# EAGLE library part MCP2515 (library mcp2515)
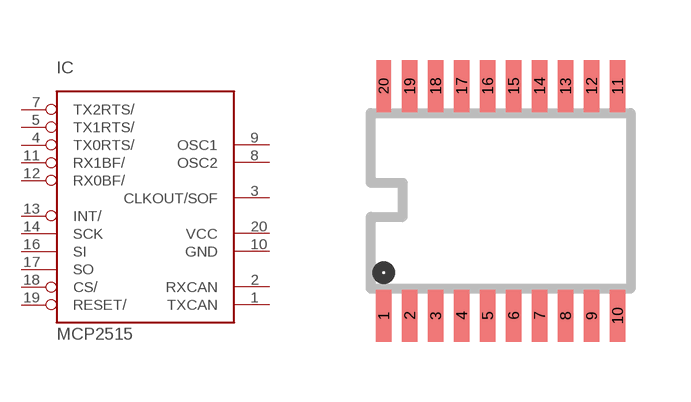
[diagram p0: symbol with the pads of TSSOP; footprint TSSOP]

Designator prefix IC

## MCP2515  [TSSOP]
1  TXCAN
2  RXCAN
3  CLKOUT/SOF
4  TX0RTS/
5  TX1RTS/
7  TX2RTS/
8  OSC2
9  OSC1
10  GND  sup
11  RX1BF/
12  RX0BF/
13  INT/  out
14  SCK  in
16  SI  in
17  SO  out
18  CS/  in
19  RESET/  in
20  VCC  sup

## Footprint TSSOP (pad centres in mm)
smd 0.396 x 1.3: 1 -2.925,-2.875; 2 -2.275,-2.875; 3 -1.625,-2.875; 4 -0.975,-2.875; 5 -0.325,-2.875; 6 0.325,-2.875; 7 0.975,-2.875; 8 1.625,-2.875; 9 2.275,-2.875; 10 2.925,-2.875; 11 2.925,2.875; 12 2.275,2.875; 13 1.625,2.875; 14 0.975,2.875; 15 0.325,2.875; 16 -0.325,2.875; 17 -0.975,2.875; 18 -1.625,2.875; 19 -2.275,2.875
smd 0.369 x 1.3: 20 -2.925,2.875